# EAGLE library part ULTGPS (library ULTGPS)
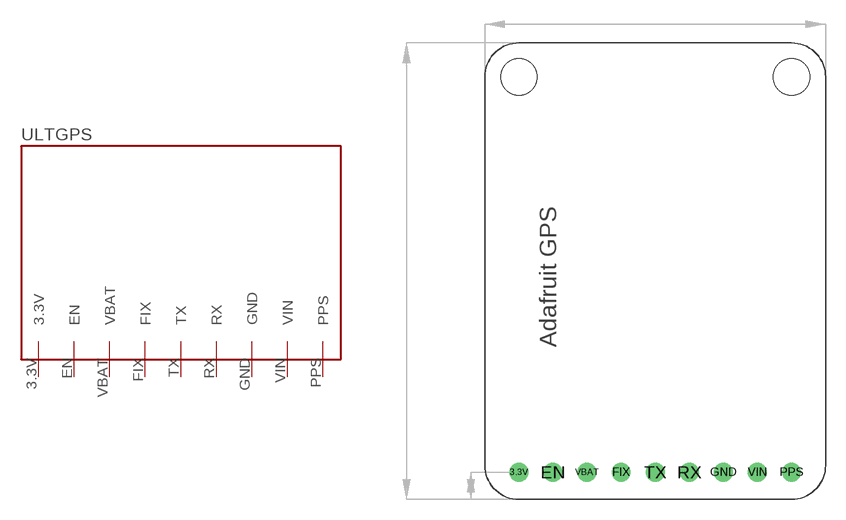
[diagram p0: symbol with the pads of ULTGPS; footprint ULTGPS]

Designator prefix -

## ULTGPS  [ULTGPS]
3.3V  3.3V  out
EN  EN  in
FIX  FIX  out
GND  GND  pwr
PPS  PPS  out
RX  RX  in
TX  TX  out
VBAT  VBAT  in
VIN  VIN  in

## Footprint ULTGPS (pad centres in mm)
drill 0.9: 3.3V -10.16,-14.986; EN -7.62,-14.986; FIX -2.54,-14.986; GND 5.08,-14.986; PPS 10.16,-14.986; RX 2.54,-14.986; TX 0,-14.986; VBAT -5.08,-14.986; VIN 7.62,-14.986
hole 2.692 at 10.16,14.478
hole 2.692 at -10.16,14.478